# Altium schematic symbol library 2020-09-19_14-30-22.SchLib: 12 symbols
Pins are listed as number, name and electrical type; pins without a type are passive.

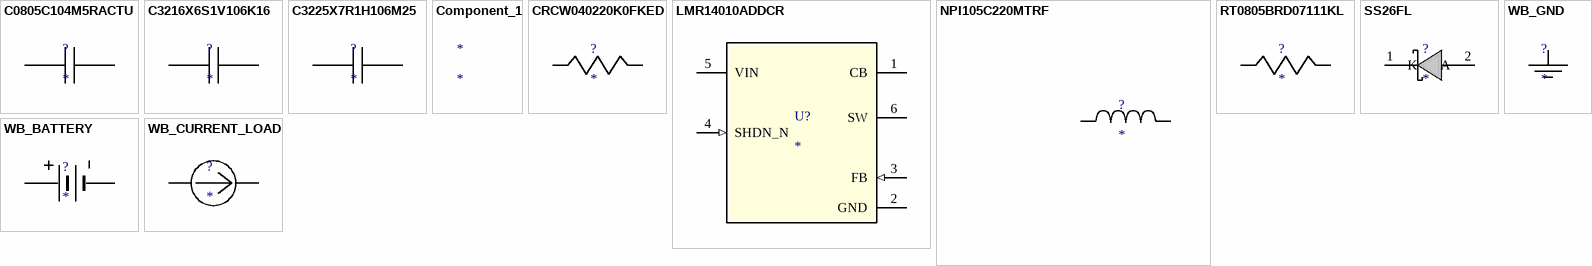
[diagram p0: symbols C0805C104M5RACTU to WB_GND]

## C0805C104M5RACTU
designator ?
Imported; Manufacturer_Part_Number: C0805C104M5RACTU; Vendor: Kemet; Manufacturer_Name: Kemet; RefDes: RefDes; TYPE: TYPE; Value: Value
footprint 0805
pins: 1, 2

## C3216X6S1V106K16
designator ?
Imported; Manufacturer_Part_Number: C3216X6S1V106K160AC; Vendor: TDK; Manufacturer_Name: TDK; RefDes: RefDes; TYPE: TYPE; Value: Value
footprint 1206_180
pins: 1, 2

## C3225X7R1H106M25
designator ?
Imported; Manufacturer_Part_Number: C3225X7R1H106M250AC; Vendor: TDK; Manufacturer_Name: TDK; RefDes: RefDes; TYPE: TYPE; Value: Value
footprint 1210
pins: 1, 2

## Component_1
designator *

## CRCW040220K0FKED
designator ?
Imported; Manufacturer_Part_Number: CRCW040220K0FKED; Vendor: Vishay-Dale; Manufacturer_Name: Vishay-Dale; RefDes: RefDes; TYPE: TYPE; Value: Value
footprint 0402
pins: 1, 2

## LMR14010ADDCR
designator U?
Imported; PartNumber: LMR14010ADDCR; Manufacturer: Texas Instruments; RefDes: RefDes; TYPE: TYPE; Value: Value; Manufacturer_Part_Number: LMR14010ADDCR; Manufacturer_Name: Texas Instruments
footprint DDC0006A_N
pins: 1 CB, 2 GND (power), 3 FB (in), 4 SHDN_N (in), 5 VIN (power), 6 SW (power)

## NPI105C220MTRF
designator ?
Imported; Manufacturer_Part_Number: NPI105C220MTRF; Vendor: NIC Components; Manufacturer_Name: NIC Components; RefDes: RefDes; TYPE: TYPE; Value: Value
footprint IND_NPI105C
pins: 1, 2

## RT0805BRD07111KL
designator ?
Imported; Manufacturer_Part_Number: RT0805BRD07111KL; Manufacturer_Name: Yageo; Vendor: Yageo America; RefDes: RefDes; TYPE: TYPE; Value: Value
footprint 0805
pins: 1, 2

## SS26FL
designator ?
Imported; Manufacturer_Part_Number: SS26FL; Vendor: Fairchild Semiconductor; Manufacturer_Name: Fairchild Semiconductor; RefDes: RefDes; TYPE: TYPE; Value: Value
footprint SOD-123F
pins: 1 K, 2 A

## WB_BATTERY
designator ?
Imported; Manufacturer_Part_Number: WB_BATTERY; PowerPortType: POWER_GROUND; Value: Value; Manufacturer_Name: WB_BATTERY; RefDes: RefDes; TYPE: TYPE
pins: 1 +, 2 -

## WB_CURRENT_LOAD
designator ?
Imported; Manufacturer_Part_Number: WB_CURRENT_LOAD; PowerPortType: POWER_GROUND; Value: Value; Manufacturer_Name: WB_CURRENT_LOAD; RefDes: RefDes; TYPE: TYPE
pins: 1 +, 2 -

## WB_GND
designator ?
Imported; Manufacturer_Part_Number: WB_GND; PowerPortType: POWER_GROUND; Value: Value; Manufacturer_Name: WB_GND; RefDes: RefDes; TYPE: TYPE
pins: 1